# Altium footprint library MMBT2907ALT1G.PcbLib: 3 footprints
Each footprint in its own frame and in the unit in brackets; x right, y up, seen from the top. Pads: shape width x height; smd on the part's side, far side on the other; paste and mask are expansions set on the pad; w line width, h text height; cw(c..) or ccw(c..) is an arc to the next point about the centre after c.
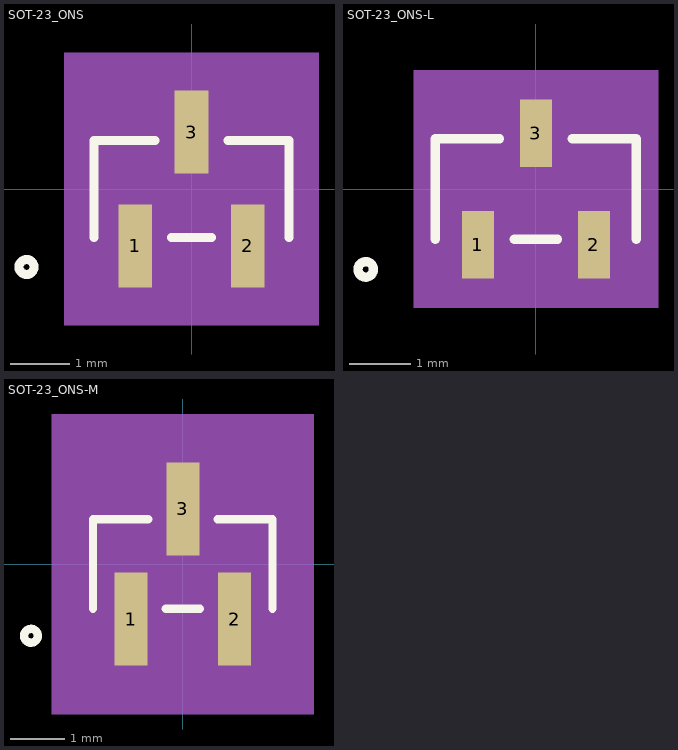
[diagram p0: the footprints below, top view; thin cyan lines are the x and y axes]

## SOT-23_ONS [mil]
pads (3):
  rect 22.36x55.56 smd paste+0 mask+0: 1(-37.5,-38) 2(37.5,-38) 3(0,38)
Top Overlay:
  circle w6: c-110,-52 r5
  lines w6: -65,-32.5 -65,32.5 -24.28,32.5 ; -13.22,-32.5 13.22,-32.5 ; 24.28,32.5 65,32.5 65,-32.5
Mechanical 5:
  region: -85,90.78 85,90.78 85,-90.78 -85,-90.78
Mechanical 13:
  circle w0: c-50,-17.5 r5
  lines w1: -60,-27.5 60,-27.5 60,27.5 -60,27.5 -60,-27.5 ; -47.5,-52 -47.5,-27.5 -27.5,-27.5 -27.5,-52 -47.5,-52 ; -10,27.5 10,27.5 10,52 -10,52 -10,27.5 ; 27.5,-52 27.5,-27.5 47.5,-27.5 47.5,-52 27.5,-52
Mechanical 15:
  region: -70,-37.5 -70,37.5 -21.18,37.5 -21.18,75.78 21.18,75.78 21.18,37.5 70,37.5 70,-37.5 58.68,-37.5 58.68,-75.78 -58.68,-75.78 -58.68,-37.5
  region: 60,-27.5 -60,-27.5 -60,27.5 60,27.5
  lines w6: -70,-37.5 -70,37.5 -21.18,37.5 -21.18,75.78 21.18,75.78 21.18,37.5 70,37.5 70,-37.5 58.68,-37.5 58.68,-75.78 -58.68,-75.78 -58.68,-37.5 -70,-37.5
3D body "SOT-23_ONS.step": height 44.09, standoff 0, extent -60,-52.01 60,52.01

## SOT-23_ONS-L [mil]
pads (3):
  rect 20.79x43.75 smd paste+0 mask+0: 1(-37.5,-36.03) 2(37.5,-36.03) 3(0,36.03)
Top Overlay:
  circle w6: c-110,-52 r5
  lines w6: -65,-32.5 -65,32.5 -23.49,32.5 ; -14.01,-32.5 14.01,-32.5 ; 23.49,32.5 65,32.5 65,-32.5
Mechanical 5:
  region: -79,76.91 79,76.91 79,-76.91 -79,-76.91
Mechanical 13:
  circle w0: c-50,-17.5 r5
  lines w1: -60,-27.5 60,-27.5 60,27.5 -60,27.5 -60,-27.5 ; -47.5,-52 -47.5,-27.5 -27.5,-27.5 -27.5,-52 -47.5,-52 ; -10,27.5 10,27.5 10,52 -10,52 -10,27.5 ; 27.5,-52 27.5,-27.5 47.5,-27.5 47.5,-52 27.5,-52
Mechanical 15:
  region: -64,-31.5 -64,31.5 -14.39,31.5 -14.39,61.91 14.39,61.91 14.39,31.5 64,31.5 64,-31.5 51.89,-31.5 51.89,-61.91 -51.89,-61.91 -51.89,-31.5
  region: 60,-27.5 -60,-27.5 -60,27.5 60,27.5
  lines w6: -64,-31.5 -64,31.5 -14.39,31.5 -14.39,61.91 14.39,61.91 14.39,31.5 64,31.5 64,-31.5 51.89,-31.5 51.89,-61.91 -51.89,-61.91 -51.89,-31.5 -64,-31.5
3D body "SOT-23_ONS.step": height 44.09, standoff 0, extent -60,-52.01 60,52.01

## SOT-23_ONS-M [mil]
pads (3):
  rect 23.94x67.37 smd paste+0 mask+0: 1(-37.5,-39.97) 2(37.5,-39.97) 3(0,39.97)
Top Overlay:
  circle w6: c-110,-52 r5
  lines w6: -65,-32.5 -65,32.5 -25.07,32.5 ; -12.43,-32.5 12.43,-32.5 ; 25.07,32.5 65,32.5 65,-32.5
Mechanical 5:
  region: -95,108.65 95,108.65 95,-108.65 -95,-108.65
Mechanical 13:
  circle w0: c-50,-17.5 r5
  lines w1: -60,-27.5 60,-27.5 60,27.5 -60,27.5 -60,-27.5 ; -47.5,-52 -47.5,-27.5 -27.5,-27.5 -27.5,-52 -47.5,-52 ; -10,27.5 10,27.5 10,52 -10,52 -10,27.5 ; 27.5,-52 27.5,-27.5 47.5,-27.5 47.5,-52 27.5,-52
Mechanical 15:
  region: -80,-47.5 -80,47.5 -31.97,47.5 -31.97,93.65 31.97,93.65 31.97,47.5 80,47.5 80,-47.5 69.47,-47.5 69.47,-93.65 -69.47,-93.65 -69.47,-47.5
  region: 60,-27.5 -60,-27.5 -60,27.5 60,27.5
  lines w6: -80,-47.5 -80,47.5 -31.97,47.5 -31.97,93.65 31.97,93.65 31.97,47.5 80,47.5 80,-47.5 69.47,-47.5 69.47,-93.65 -69.47,-93.65 -69.47,-47.5 -80,-47.5
3D body "SOT-23_ONS.step": height 44.09, standoff 0, extent -60,-52.01 60,52.01